# EAGLE library part MB96F315RSBPMC-GSE2 (library Fujitsu_By_element14_Batch_1)
16-bit Proprietary Microcontroller
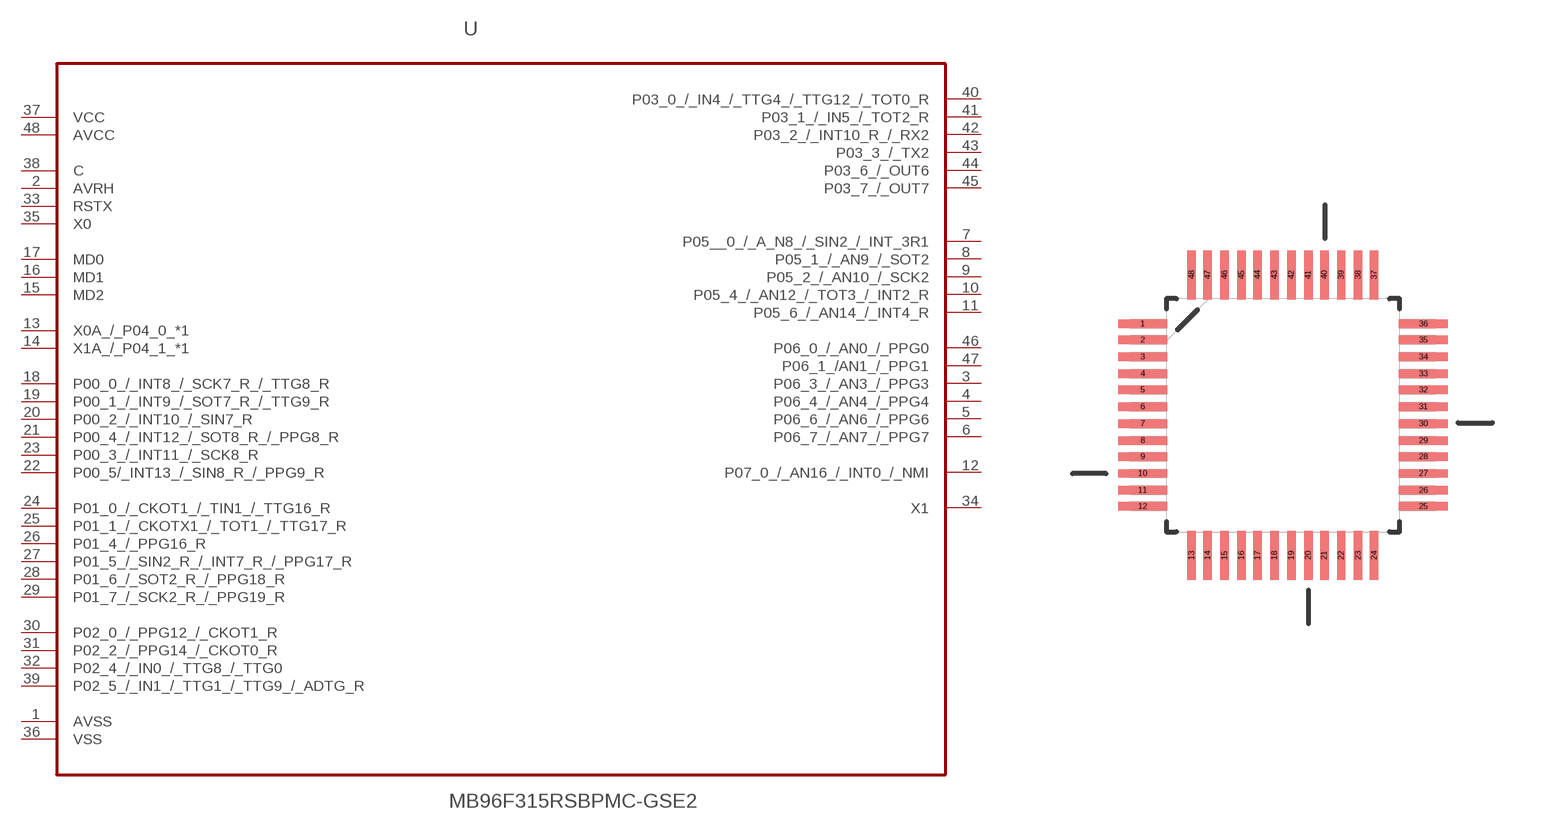
[diagram p9: symbol with the pads of QFP50P900X900X170-48N; footprint QFP50P900X900X170-48N]

Designator prefix U

## MB96F315RSBPMC-GSE2 (MPN: MB96F315RSBPMC-GSE2; OC_FARNELL: 1831962; OC_NEWARK: 93R5188; PACKAGE: LQFP-48; SUPPLIER: FUJITSU)  [QFP50P900X900X170-48N]
1  AVSS  in
2  AVRH  in
3  P06_3_/_AN3_/_PPG3  in
4  P06_4_/_AN4_/_PPG4  in
5  P06_6_/_AN6_/_PPG6  in
6  P06_7_/_AN7_/_PPG7  in
7  P05__0_/_A_N8_/_SIN2_/_INT_3R1  in
8  P05_1_/_AN9_/_SOT2  in
9  P05_2_/_AN10_/_SCK2  in
10  P05_4_/_AN12_/_TOT3_/_INT2_R  in
11  P05_6_/_AN14_/_INT4_R  in
12  P07_0_/_AN16_/_INT0_/_NMI  in
13  X0A_/_P04_0_*1  in
14  X1A_/_P04_1_*1  in
15  MD2  in
16  MD1  in
17  MD0  in
18  P00_0_/_INT8_/_SCK7_R_/_TTG8_R  in
19  P00_1_/_INT9_/_SOT7_R_/_TTG9_R  in
20  P00_2_/_INT10_/_SIN7_R  in
21  P00_4_/_INT12_/_SOT8_R_/_PPG8_R  in
22  P00_5/_INT13_/_SIN8_R_/_PPG9_R  in
23  P00_3_/_INT11_/_SCK8_R  in
24  P01_0_/_CKOT1_/_TIN1_/_TTG16_R  out
25  P01_1_/_CKOTX1_/_TOT1_/_TTG17_R  out
26  P01_4_/_PPG16_R  out
27  P01_5_/_SIN2_R_/_INT7_R_/_PPG17_R  in
28  P01_6_/_SOT2_R_/_PPG18_R  in
29  P01_7_/_SCK2_R_/_PPG19_R  out
30  P02_0_/_PPG12_/_CKOT1_R  out
31  P02_2_/_PPG14_/_CKOT0_R  out
32  P02_4_/_IN0_/_TTG8_/_TTG0  in
33  RSTX  in
34  X1  out
35  X0  in
36  VSS  in
37  VCC  in
38  C  in
39  P02_5_/_IN1_/_TTG1_/_TTG9_/_ADTG_R  in
40  P03_0_/_IN4_/_TTG4_/_TTG12_/_TOT0_R  in
41  P03_1_/_IN5_/_TOT2_R  in
42  P03_2_/_INT10_R_/_RX2  in
43  P03_3_/_TX2  in
44  P03_6_/_OUT6  out
45  P03_7_/_OUT7  out
46  P06_0_/_AN0_/_PPG0  in
47  P06_1_/AN1_/_PPG1  in
48  AVCC  in

## Footprint QFP50P900X900X170-48N (pad centres in mm)
smd 1.473 x 0.254: 1 -4.216,2.743; 2 -4.216,2.261; 3 -4.216,1.753; 4 -4.216,1.245; 5 -4.216,0.762; 6 -4.216,0.254; 7 -4.216,-0.254; 8 -4.216,-0.762; 9 -4.216,-1.245; 10 -4.216,-1.753; 11 -4.216,-2.261; 12 -4.216,-2.743; 25 4.216,-2.743; 26 4.216,-2.261; 27 4.216,-1.753; 28 4.216,-1.245; 29 4.216,-0.762; 30 4.216,-0.254; 31 4.216,0.254; 32 4.216,0.762; 33 4.216,1.245; 34 4.216,1.753; 35 4.216,2.261; 36 4.216,2.743
smd 0.254 x 1.473: 13 -2.743,-4.216; 14 -2.261,-4.216; 15 -1.753,-4.216; 16 -1.245,-4.216; 17 -0.762,-4.216; 18 -0.254,-4.216; 19 0.254,-4.216; 20 0.762,-4.216; 21 1.245,-4.216; 22 1.753,-4.216; 23 2.261,-4.216; 24 2.743,-4.216; 37 2.743,4.216; 38 2.261,4.216; 39 1.753,4.216; 40 1.245,4.216; 41 0.762,4.216; 42 0.254,4.216; 43 -0.254,4.216; 44 -0.762,4.216; 45 -1.245,4.216; 46 -1.753,4.216; 47 -2.261,4.216; 48 -2.743,4.216